# Altium integrated library Vishay Siliconix Discrete JFET.IntLib: 2 symbols
Pins are listed as number, name and electrical type; pins without a type are passive.

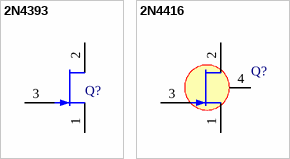
[diagram p0: symbols 2N4393 to 2N4416]

## 2N4393
designator Q?
N-Channel JFET; Published: 8-Jun-2000; LatestRevisionDate: 17-Jul-2002; LatestRevisionNote: Re-released for DXP Platform.; DatasheetVersion: 11-Aug-1997; PackageVersion: 1997; PackageReference: TO-206AA; Publisher: Altium Limited; PackageDescription: Can; 3 Leads; Pin Circle Dia. 2.54 mm; Lead Dia. 0.48 mm (max); ComponentLink1Description: Manufacturer Link; ComponentLink1URL: http://www.vishay.com/; ComponentLink2Description: Datasheet; ComponentLink2URL: http://www.vishay.com/docs/70241/70241.pdf
footprint TO-206AA (Can; 3 Leads; Pin Circle Dia. 2.54 mm; Lead Dia. 0.48 mm (max))
simulation model 2N4393 (NJFET)
pins: 1 S, 2 D, 3 G

## 2N4416
designator Q?
N-Channel JFET; Note: Pin 4 is connected to Case; Published: 8-Jun-2000; LatestRevisionDate: 17-Jul-2002; LatestRevisionNote: Re-released for DXP Platform.; DatasheetVersion: 14-Apr-1997; PackageVersion: 1997; PackageReference: TO-206AF; Publisher: Altium Limited; PackageDescription: Can; 4 Leads; Pin Circle Dia. 2.54 mm; Lead Dia. 0.48 mm (max); ComponentLink1Description: Manufacturer Link; ComponentLink1URL: http://www.vishay.com/; ComponentLink2Description: Datasheet; ComponentLink2URL: http://www.vishay.com/docs/70242/70242.pdf
footprint TO-206AF (Can; 4 Leads; Pin Circle Dia. 2.54 mm; Lead Dia. 0.48 mm (max))
simulation model 2N4416 (NJFET)
pins: 1 S, 2 D, 3 G, 4 C